# EAGLE library part JTAG (library con-misc)
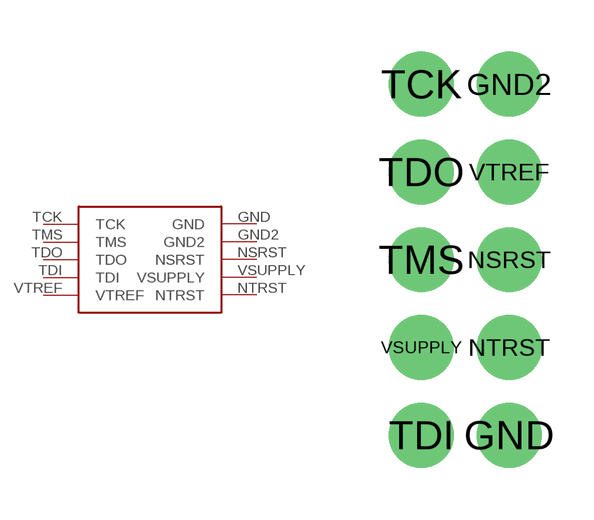
[diagram p4: symbol with the pads of JTAG; footprint JTAG]

Designator prefix -

## JTAG  [JTAG]
GND  GND
GND2  GND2
NSRST  NSRST
NTRST  NTRST
TCK  TCK
TDI  TDI
TDO  TDO
TMS  TMS
VSUPPLY  VSUPPLY
VTREF  VTREF

## Footprint JTAG (pad centres in mm)
drill 1.06 pad 1.88: GND 2.54,-5.08; GND2 2.54,5.08; NSRST 2.54,0; NTRST 2.54,-2.54; TCK 0,5.08; TDI 0,-5.08; TDO 0,2.54; TMS 0,0; VSUPPLY 0,-2.54; VTREF 2.54,2.54